# Altium footprint library Additional.PcbLib: 7 footprints
Each footprint in its own frame and in the unit in brackets; x right, y up, seen from the top. Pads: shape width x height; smd on the part's side, far side on the other; paste and mask are expansions set on the pad; w line width, h text height; cw(c..) or ccw(c..) is an arc to the next point about the centre after c.
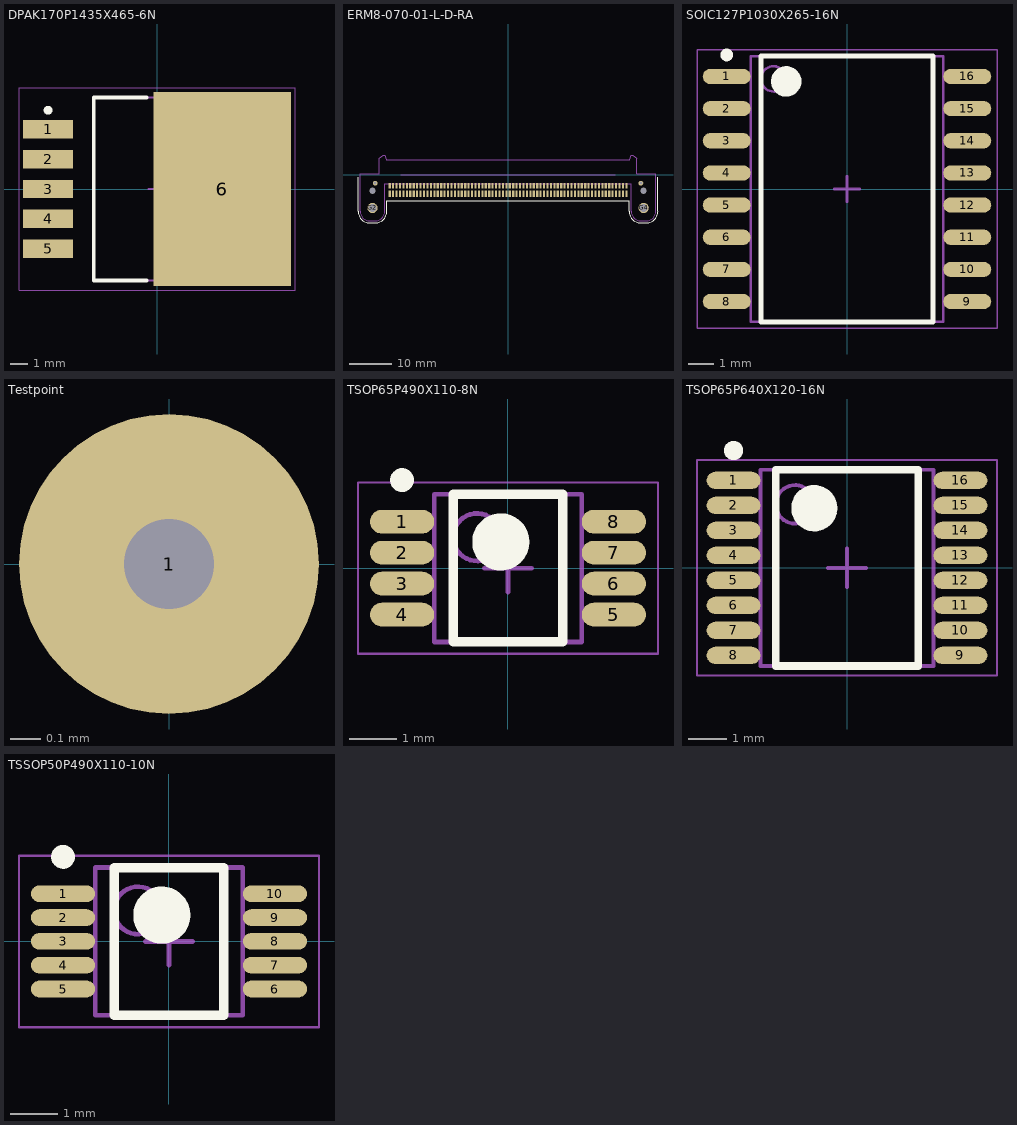
[diagram p0: the footprints below, top view; thin cyan lines are the x and y axes]

## DPAK170P1435X465-6N [mm] "D2-PAK, 6-Pads, Body 7,55x8,57mm (max), IPC Medium Density"
height 4.65
pads (6):
  rect 2.85x1.05 smd: 1(-6.2,3.4) 2(-6.2,1.7) 3(-6.2,0) 4(-6.2,-1.7) 5(-6.2,-3.4)
  rect 7.8x11 smd: 6(3.7,0)
Top Overlay:
  circle w0.25: c-6.2,4.475 r0.125
  lines w0.2: -0.6,-5.2 -3.6,-5.2 -3.6,5.2 -0.6,5.2
Mechanical 13:
  lines w0.1: -3.6,-5.2 -3.6,5.2 5.29,5.2 5.29,-5.2 -3.6,-5.2
Mechanical 15:
  lines w0.05: -7.85,-5.75 -7.85,5.75 7.85,5.75 7.85,-5.75 -7.85,-5.75
  lines w0.1: -0.5,0 0.5,0 ; 0,-0.5 0,0.5
3D body "DPAK170P1435X465-6N.step": height 4.8, standoff 0, extent -7.055,-5.4 7.295,5.4

## ERM8-070-01-L-D-RA [mm]
pads (146):
  rect 0.5x1.3 smd mask+0.05: 1(-27.6,-2.54) 3(-26.8,-2.54) 5(-26,-2.54) 7(-25.2,-2.54) 9(-24.4,-2.54) 11(-23.6,-2.54) 13(-22.8,-2.54) 15(-22,-2.54) 17(-21.2,-2.54) 19(-20.4,-2.54) 21(-19.6,-2.54) 23(-18.8,-2.54) 25(-18,-2.54) 27(-17.2,-2.54) 29(-16.4,-2.54) 31(-15.6,-2.54) 33(-14.8,-2.54) 35(-14,-2.54) 37(-13.2,-2.54) 39(-12.4,-2.54) 41(-11.6,-2.54) 43(-10.8,-2.54) 45(-10,-2.54) 47(-9.2,-2.54) 49(-8.4,-2.54) 51(-7.6,-2.54) 53(-6.8,-2.54) 55(-6,-2.54) 57(-5.2,-2.54) 59(-4.4,-2.54) 61(-3.6,-2.54) 63(-2.8,-2.54) 65(-2,-2.54) 67(-1.2,-2.54) 69(-0.4,-2.54) 71(0.4,-2.54) 73(1.2,-2.54) 75(2,-2.54) 77(2.8,-2.54) 79(3.6,-2.54) 81(4.4,-2.54) 83(5.2,-2.54) 85(6,-2.54) 87(6.8,-2.54) 89(7.6,-2.54) 91(8.4,-2.54) 93(9.2,-2.54) 95(10,-2.54) 97(10.8,-2.54) 99(11.6,-2.54) 101(12.4,-2.54) 103(13.2,-2.54) 105(14,-2.54) 107(14.8,-2.54) 109(15.6,-2.54) 111(16.4,-2.54) 113(17.2,-2.54) 115(18,-2.54) 117(18.8,-2.54) 119(19.6,-2.54) 121(20.4,-2.54) 123(21.2,-2.54) 125(22,-2.54) 127(22.8,-2.54) 129(23.6,-2.54) 131(24.4,-2.54) 133(25.2,-2.54) 135(26,-2.54) 137(26.8,-2.54) 139(27.6,-2.54)
  rect 0.5x1.52 smd mask+0.05: 2(-27.6,-4.33) 4(-26.8,-4.33) 6(-26,-4.33) 8(-25.2,-4.33) 10(-24.4,-4.33) 12(-23.6,-4.33) 14(-22.8,-4.33) 16(-22,-4.33) 18(-21.2,-4.33) 20(-20.4,-4.33) 22(-19.6,-4.33) 24(-18.8,-4.33) 26(-18,-4.33) 28(-17.2,-4.33) 30(-16.4,-4.33) 32(-15.6,-4.33) 34(-14.8,-4.33) 36(-14,-4.33) 38(-13.2,-4.33) 40(-12.4,-4.33) 42(-11.6,-4.33) 44(-10.8,-4.33) 46(-10,-4.33) 48(-9.2,-4.33) 50(-8.4,-4.33) 52(-7.6,-4.33) 54(-6.8,-4.33) 56(-6,-4.33) 58(-5.2,-4.33) 60(-4.4,-4.33) 62(-3.6,-4.33) 64(-2.8,-4.33) 66(-2,-4.33) 68(-1.2,-4.33) 70(-0.4,-4.33) 72(0.4,-4.33) 74(1.2,-4.33) 76(2,-4.33) 78(2.8,-4.33) 80(3.6,-4.33) 82(4.4,-4.33) 84(5.2,-4.33) 86(6,-4.33) 88(6.8,-4.33) 90(7.6,-4.33) 92(8.4,-4.33) 94(9.2,-4.33) 96(10,-4.33) 98(10.8,-4.33) 100(11.6,-4.33) 102(12.4,-4.33) 104(13.2,-4.33) 106(14,-4.33) 108(14.8,-4.33) 110(15.6,-4.33) 112(16.4,-4.33) 114(17.2,-4.33) 116(18,-4.33) 118(18.8,-4.33) 120(19.6,-4.33) 122(20.4,-4.33) 124(21.2,-4.33) 126(22,-4.33) 128(22.8,-4.33) 130(23.6,-4.33) 132(24.4,-4.33) 134(25.2,-4.33) 136(26,-4.33) 138(26.8,-4.33) 140(27.6,-4.33)
  round 1.1 hole 0.7 mask+0.075: G1(-31,-1.92) G3(31,-1.92)
  round 2.41 hole 1.91 mask+0.075: G2(-31.625,-7.7) G4(31.625,-7.7)
  round 0 hole 1.45 unplated: MH1(-31.625,-3.7) MH2(31.625,-3.7)
Top Overlay:
  lines w0.254: -35.005,-0.5 -35.005,-8.45 ccw(c-32.255,-8.45) -32.255,-11.2 -31.005,-11.2 ccw(c-31.005,-8.45) -28.255,-8.45 -28.255,-6.018 28.23,-6.018 28.23,-8.453 ccw(c30.98,-8.453) 30.98,-11.203 32.23,-11.203 ccw(c32.23,-8.453) 34.98,-8.453 34.98,-0.503
Mechanical 1:
  lines w0.254: 28.34,3.557 28.46,3.857 28.78,4.657 29.127,4.657 30.013,3.913 30.03,3.899 30.045,3.886 30.057,3.876 30.067,3.868 30.074,3.862 30.079,3.858 30.08,3.857 30.08,0.297 34.48,0.297 34.48,-8.453 cw(c32.23,-8.453) 32.23,-10.703 30.98,-10.703 cw(c30.98,-8.453) 28.73,-8.453 28.73,-2.053 ; 28.34,3.56 -28.365,3.56 -28.485,3.86 -28.805,4.66 -29.152,4.66 -30.038,3.916 -30.055,3.902 -30.07,3.89 -30.082,3.879 -30.092,3.871 -30.099,3.865 -30.104,3.861 -30.105,3.86 -30.105,0.3 -34.505,0.3 -34.505,-8.45 ccw(c-32.255,-8.45) -32.255,-10.7 -31.005,-10.7 ccw(c-31.005,-8.45) -28.755,-8.45 -28.755,-2.05 28.73,-2.05
Mechanical 16:
  lines w0.01: -25,0 25,0
3D body "ERM8-070-01-L-D-RA-TR.stp": height 6.3, standoff -1.63, extent -34.5,-10.7 34.5,4.66

## SOIC127P1030X265-16N [mm] "SOIC, 16-Leads, Body 10,30x7,50mm, Pitch 1,27mm, IPC Medium Density"
height 2.65
pads (16):
  oval 1.9x0.6 smd: 1(-4.75,4.445) 2(-4.75,3.175) 3(-4.75,1.905) 4(-4.75,0.635) 5(-4.75,-0.635) 6(-4.75,-1.905) 7(-4.75,-3.175) 8(-4.75,-4.445) 9(4.75,-4.445) 10(4.75,-3.175) 11(4.75,-1.905) 12(4.75,-0.635) 13(4.75,0.635) 14(4.75,1.905) 15(4.75,3.175) 16(4.75,4.445)
Top Overlay:
  circle w0.6: c-2.4,4.25 r0.3
  circle w0.25: c-4.75,5.295 r0.125
  lines w0.2: -3.4,-5.25 3.4,-5.25 3.4,5.25 -3.4,5.25 -3.4,-5.25
Mechanical 13:
  circle w0.1: c-2.9,4.35 r0.5
  lines w0.1: -3.8,-5.25 3.8,-5.25 3.8,5.25 -3.8,5.25 -3.8,-5.25
Mechanical 15:
  lines w0.05: -5.925,-5.5 5.925,-5.5 5.925,5.5 -5.925,5.5 -5.925,-5.5
  lines w0.1: -0.5,0 0.5,0 ; 0,-0.5 0,0.5
3D body "SOIC127P1030X265-16N.step": height 2.65, standoff 0, extent -5.15,-5.25 5.15,5.25

## Testpoint [mm]
pads (1):
  round 1 hole 0.3 mask+0.5: 1(0,0)

## TSOP65P490X110-8N [mm] "TSOP, 8-Leads, Body 3,00x3,00mm, Pitch 0,65mm, IPC Medium Density"
height 1.1
pads (8):
  oval 1.35x0.5 smd: 1(-2.225,0.975) 2(-2.225,0.325) 3(-2.225,-0.325) 4(-2.225,-0.975) 5(2.225,-0.975) 6(2.225,-0.325) 7(2.225,0.325) 8(2.225,0.975)
Top Overlay:
  circle w0.6: c-0.15,0.55 r0.3
  circle w0.25: c-2.225,1.85 r0.125
  lines w0.2: -1.15,-1.55 1.15,-1.55 1.15,1.55 -1.15,1.55 -1.15,-1.55
Mechanical 13:
  circle w0.1: c-0.65,0.65 r0.5
  lines w0.1: -1.55,-1.55 1.55,-1.55 1.55,1.55 -1.55,1.55 -1.55,-1.55
Mechanical 15:
  lines w0.05: -3.15,-1.8 3.15,-1.8 3.15,1.8 -3.15,1.8 -3.15,-1.8
  lines w0.1: -0.5,0 0.5,0 ; 0,-0.5 0,0.5
3D body "TSOP65P490X110-8N.step": height 1.1, standoff 0, extent -2.45,-1.55 2.45,1.55

## TSOP65P640X120-16N [mm] "TSOP, 16-Leads, Body 5,00x4,40mm, Pitch 0,65mm, IPC Medium Density"
height 1.2
pads (16):
  oval 1.4x0.45 smd: 1(-2.95,2.275) 2(-2.95,1.625) 3(-2.95,0.975) 4(-2.95,0.325) 5(-2.95,-0.325) 6(-2.95,-0.975) 7(-2.95,-1.625) 8(-2.95,-2.275) 9(2.95,-2.275) 10(2.95,-1.625) 11(2.95,-0.975) 12(2.95,-0.325) 13(2.95,0.325) 14(2.95,0.975) 15(2.95,1.625) 16(2.95,2.275)
Top Overlay:
  circle w0.6: c-0.85,1.55 r0.3
  circle w0.25: c-2.95,3.05 r0.125
  lines w0.2: -1.85,-2.55 1.85,-2.55 1.85,2.55 -1.85,2.55 -1.85,-2.55
Mechanical 13:
  circle w0.1: c-1.35,1.65 r0.5
  lines w0.1: -2.25,-2.55 2.25,-2.55 2.25,2.55 -2.25,2.55 -2.25,-2.55
Mechanical 15:
  lines w0.05: -3.9,-2.8 3.9,-2.8 3.9,2.8 -3.9,2.8 -3.9,-2.8
  lines w0.1: -0.5,0 0.5,0 ; 0,-0.5 0,0.5
3D body "TSOP65P640X120-16N.step": height 1.2, standoff 0, extent -3.2,-2.55 3.2,2.55

## TSSOP50P490X110-10N [mm] "TSSOP, 10-Leads, Body 3,00x3,00mm, Pitch 0,50mm, IPC Medium Density"
height 1.1
pads (10):
  oval 1.35x0.35 smd: 1(-2.225,1) 2(-2.225,0.5) 3(-2.225,0) 4(-2.225,-0.5) 5(-2.225,-1) 6(2.225,-1) 7(2.225,-0.5) 8(2.225,0) 9(2.225,0.5) 10(2.225,1)
Top Overlay:
  circle w0.6: c-0.15,0.55 r0.3
  circle w0.25: c-2.225,1.775 r0.125
  lines w0.2: -1.15,-1.55 1.15,-1.55 1.15,1.55 -1.15,1.55 -1.15,-1.55
Mechanical 13:
  circle w0.1: c-0.65,0.65 r0.5
  lines w0.1: -1.55,-1.55 1.55,-1.55 1.55,1.55 -1.55,1.55 -1.55,-1.55
Mechanical 15:
  lines w0.05: -3.15,-1.8 3.15,-1.8 3.15,1.8 -3.15,1.8 -3.15,-1.8
  lines w0.1: -0.5,0 0.5,0 ; 0,-0.5 0,0.5
3D body "TSSOP50P490X110-10N.step": height 1.1, standoff 0, extent -2.438,-1.55 2.438,1.55